# EAGLE library part MAX44246 (library barthess)
Low-noise, high-speed rail-to-rail CMOS op-amp
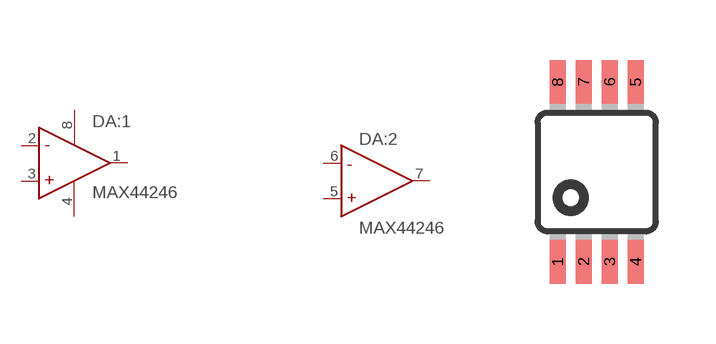
[diagram p29: symbol with the pads of MSOP8; footprint MSOP8]

Designator prefix DA; gates :1=MAX44246 :2=MAX44246_2

## MAX44246  [MSOP8]
1  :1:OUT  out
2  :1:-IN  in
3  :1:+IN  in
4  :1:-V  pwr
5  :2:+IN  in
6  :2:-IN  in
7  :2:OUT  out
8  :1:+V  pwr

## Footprint MSOP8 (pad centres in mm)
8M, 8-Lead, 0.118" Wide, Miniature Small Outline Package MSOP 8M-Package doc1097.pdf
smd 0.4 x 1.1: 1 -0.975,-2.25; 2 -0.325,-2.25; 3 0.325,-2.25; 4 0.975,-2.25; 5 0.975,2.25; 6 0.325,2.25; 7 -0.325,2.25; 8 -0.975,2.25